# Altium footprint library TPS61322.PcbLib: 1 footprints
Each footprint in its own frame and in the unit in brackets; x right, y up, seen from the top. Pads: shape width x height; smd on the part's side, far side on the other; paste and mask are expansions set on the pad; w line width, h text height; cw(c..) or ccw(c..) is an arc to the next point about the centre after c.
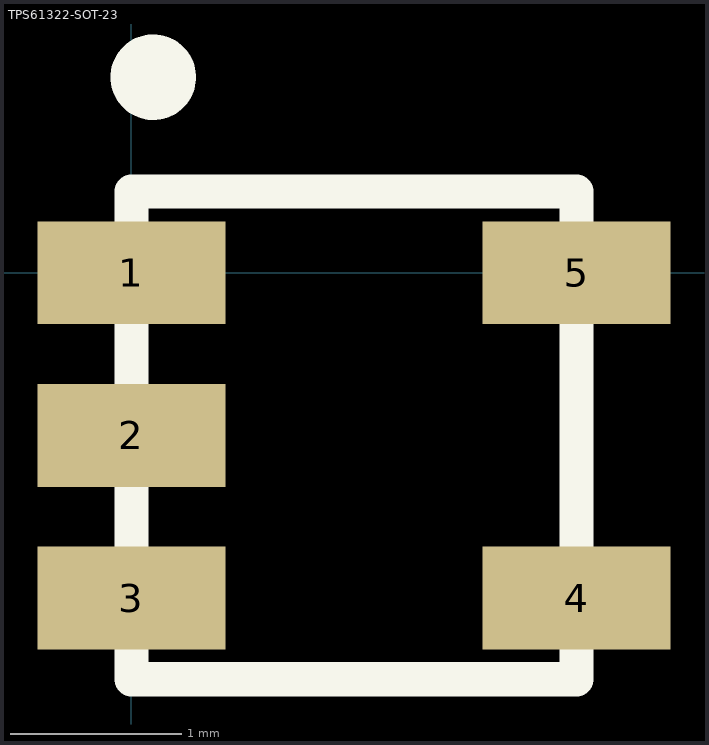
[diagram p0: the footprint, top view; thin cyan lines are the x and y axes]

## TPS61322-SOT-23 [mm]
height 1.45
pads (5):
  rect 1.1x0.6 smd: 1(0,0) 2(0,-0.95) 3(0,-1.9) 4(2.6,-1.9) 5(2.6,0)
Top Overlay:
  circle w0.25: c0.127,1.143 r0.125
  lines w0.2: 1.062,0.475 2.6,0.475 2.6,-2.375 0,-2.375 0,0.475 1.538,0.475
3D body: height 1.1, standoff 0.01, extent 0.57,-2.516 1.97,0.484